# Altium schematic symbol library SCH - BATTERY - MPD BC2AAPC.SCHLIB: 1 symbol
Pins are listed as number, name and electrical type; pins without a type are passive.

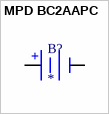
[diagram p0: symbol MPD BC2AAPC]

## MPD BC2AAPC
designator B?
pins: 1 +, 2 -